# Altium schematic symbol library TLV76133DCYR.SchLib: 1 symbol
Pins are listed as number, name and electrical type; pins without a type are passive.

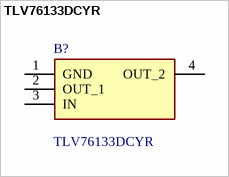
[diagram p0: symbol TLV76133DCYR]

## TLV76133DCYR
designator B?
Linear Voltage Regulators 1-A 16-V high-PSRR linear voltage regulator; Manufacturer_Name: Texas Instruments; Geometry.Height: 1.8mm; Mouser Part Number: 595-TLV76133DCYR; Mouser Price/Stock: https://www.mouser.co.uk/ProductDetail/Texas-Instruments/TLV76133DCYR?qs=9vOqFld9vZV5BPjUhjTZUA%3D%3D; Manufacturer_Part_Number: TLV76133DCYR; Datasheet Link: https://www.ti.com/lit/ds/symlink/tlv761.pdf?ts=1679984111185&ref_url=https%253A%252F%252Fwww.ti.com%252Fsitesearch%252Fen-us%252Fdocs%252Funiversalsearch.tsp%253FlangPref%253Den-US%2526searchTerm%253DTLV76133DCYR%2526nr%253D2
footprint SOT230P700X180-4N
pins: 1 GND, 2 OUT_1, 3 IN, 4 OUT_2